# Altium schematic symbol library diode_led.SchLib: 1 symbol
Pins are listed as number, name and electrical type; pins without a type are passive.

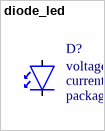
[diagram p0: symbol diode_led]

## diode_led
designator D?
component category: diode; ComponentLink1Description: datasheet; ComponentLink1URL: *; ComponentLink2Description: supplier link; ComponentLink2URL: *; component type: rectifier; supplier link: *; supplier currency: *; price,max: *; price,min: *; Quantity,max: *; Quantity,min: *; Operating Temparature,max: *; Operating Temparature,min: *; Supplier Part number: *; Supplier: *; Manufacturer Part number: *; Manufacturer: *; current: *; package: *; voltage: *
footprint diode_Smd_M1608_I0603_blue
footprint diode_Smd_M1608_I0603_green
footprint diode_Smd_M1608_I0603_green-yellow
footprint diode_Smd_M1608_I0603_orange1
footprint diode_Smd_M1608_I0603_orange2
footprint diode_Smd_M1608_I0603_red
footprint diode_Smd_M1608_I0603_white
footprint diode_Smd_M1608_I0603_yellow
pins: A, C
8 alternate drawings of the same symbol